# Altium footprint library esp32-s3.PcbLib: 1 footprints
Each footprint in its own frame and in the unit in brackets; x right, y up, seen from the top. Pads: shape width x height; smd on the part's side, far side on the other; paste and mask are expansions set on the pad; w line width, h text height; cw(c..) or ccw(c..) is an arc to the next point about the centre after c.
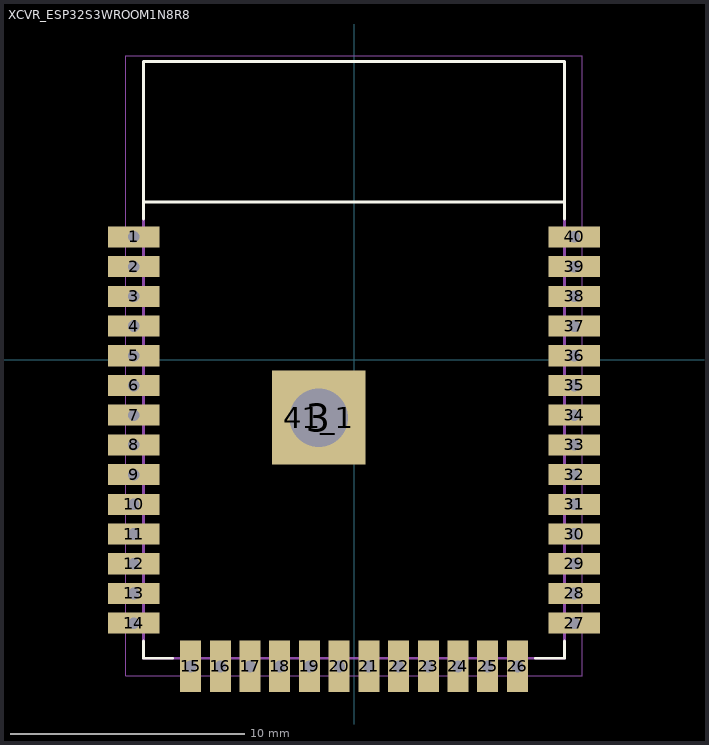
[diagram p0: the footprint, top view; thin cyan lines are the x and y axes]

## XCVR_ESP32S3WROOM1N8R8 [mm]
pads (44):
  rect 2.2x0.9 hole 0.5: 1(-9.417,5.26) 2(-9.417,3.99) 3(-9.417,2.72) 4(-9.417,1.45) 5(-9.417,0.18) 6(-9.417,-1.09) 7(-9.417,-2.36) 8(-9.417,-3.63) 9(-9.417,-4.9) 10(-9.417,-6.17) 11(-9.417,-7.44) 12(-9.417,-8.71) 13(-9.417,-9.98) 14(-9.417,-11.25) 27(9.417,-11.25) 28(9.417,-9.98) 29(9.417,-8.71) 30(9.417,-7.44) 31(9.417,-6.17) 32(9.417,-4.9) 33(9.417,-3.63) 34(9.417,-2.36) 35(9.417,-1.09) 36(9.417,0.18) 37(9.417,1.45) 38(9.417,2.72) 39(9.417,3.99) 40(9.417,5.26)
  rect 3x3 hole 2.5: 3(-1.5,-2.46)
  rect 0.9x2.2 hole 0.5: 15(-6.985,-13.1) 16(-5.715,-13.1) 17(-4.445,-13.1) 18(-3.175,-13.1) 19(-1.905,-13.1) 20(-0.635,-13.1) 21(0.635,-13.1) 22(1.905,-13.1) 23(3.175,-13.1) 24(4.445,-13.1) 25(5.715,-13.1) 26(6.985,-13.1)
  rect 4x4 smd: 41_1(-1.5,-2.46)
  rect 0.9x0.9 smd: ""(-2.9,-3.86) ""(-2.9,-2.46)
Top Overlay:
  lines w0.127: -9,-12.02 -9,-12.75 -7.755,-12.75 ; -9,6.03 -9,12.75 9,12.75 9,6.03 ; -9,6.75 9,6.75 ; 7.755,-12.75 9,-12.75 9,-12.02
Mechanical 13:
  lines w0.127: -9,-12.75 -9,6.75 -9,12.75 9,12.75 9,6.75 9,-12.75 -9,-12.75
  text "ANTENNA" at -4.5,9.5 h1.27
Mechanical 15:
  lines w0.05: -9.75,-13.5 9.75,-13.5 9.75,13 -9.75,13 -9.75,-13.5
3D body "ESP32-S3-WROOM-1-N16R2--3DModel-STEP-269445.STEP": height 3.25, standoff 0, extent -9,-12.75 9,12.75